# EAGLE library part PND_40POS_CONN (library UBCSolar)
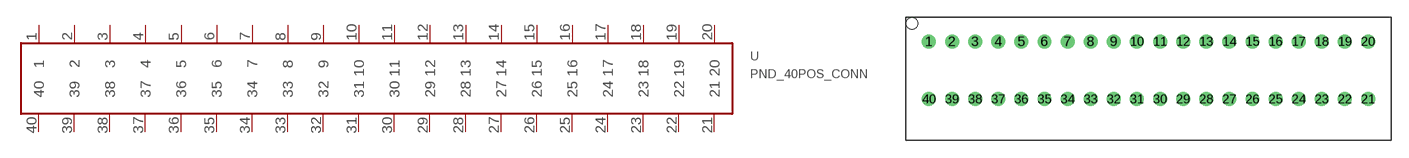
[diagram p6: symbol with the pads of PND_40POS_CONN; footprint PND_40POS_CONN]

Designator prefix -

## PND_40POS_CONN  [PND_40POS_CONN]
1  1
2  2
3  3
4  4
5  5
6  6
7  7
8  8
9  9
10  10
11  11
12  12
13  13
14  14
15  15
16  16
17  17
18  18
19  19
20  20
21  21
22  22
23  23
24  24
25  25
26  26
27  27
28  28
29  29
30  30
31  31
32  32
33  33
34  34
35  35
36  36
37  37
38  38
39  39
40  40

## Footprint PND_40POS_CONN (pad centres in mm)
PND 40 position vertical connector https://www.digikey.ca/product-detail/en/jst-sales-america-inc/B40B-PNDZS-1-T-LF-SN/455-2338-ND/1788554
drill 0.7: 1 -19,2.5; 2 -17,2.5; 3 -15,2.5; 4 -13,2.5; 5 -11,2.5; 6 -9,2.5; 7 -7,2.5; 8 -5,2.5; 9 -3,2.5; 10 -1,2.5; 11 1,2.5; 12 3,2.5; 13 5,2.5; 14 7,2.5; 15 9,2.5; 16 11,2.5; 17 13,2.5; 18 15,2.5; 19 17,2.5; 20 19,2.5; 21 19,-2.5; 22 17,-2.5; 23 15,-2.5; 24 13,-2.5; 25 11,-2.5; 26 9,-2.5; 27 7,-2.5; 28 5,-2.5; 29 3,-2.5; 30 1,-2.5; 31 -1,-2.5; 32 -3,-2.5; 33 -5,-2.5; 34 -7,-2.5; 35 -9,-2.5; 36 -11,-2.5; 37 -13,-2.5; 38 -15,-2.5; 39 -17,-2.5; 40 -19,-2.5
hole 1 at -20.45,4.05